# EAGLE library part ATSAMD21G (library Atmel)
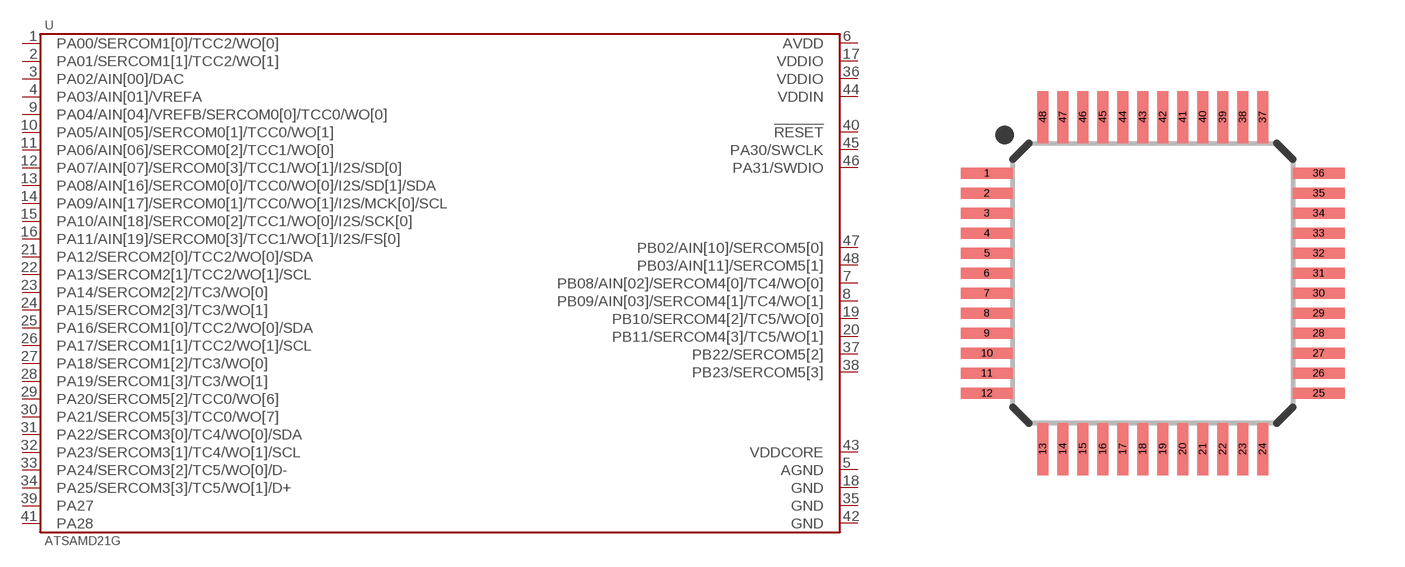
[diagram p19: symbol with the pads of TQFP-48-7MM; footprint TQFP-48-7MM]

Designator prefix U

## ATSAMD21G-AU  [TQFP-48-7MM]
1  PA00/SERCOM1[0]/TCC2/WO[0]
2  PA01/SERCOM1[1]/TCC2/WO[1]
3  PA02/AIN[00]/DAC
4  PA03/AIN[01]/VREFA
5  AGND
6  AVDD
7  PB08/AIN[02]/SERCOM4[0]/TC4/WO[0]
8  PB09/AIN[03]/SERCOM4[1]/TC4/WO[1]
9  PA04/AIN[04]/VREFB/SERCOM0[0]/TCC0/WO[0]
10  PA05/AIN[05]/SERCOM0[1]/TCC0/WO[1]
11  PA06/AIN[06]/SERCOM0[2]/TCC1/WO[0]
12  PA07/AIN[07]/SERCOM0[3]/TCC1/WO[1]/I2S/SD[0]
13  PA08/AIN[16]/SERCOM0[0]/TCC0/WO[0]/I2S/SD[1]/SDA
14  PA09/AIN[17]/SERCOM0[1]/TCC0/WO[1]/I2S/MCK[0]/SCL
15  PA10/AIN[18]/SERCOM0[2]/TCC1/WO[0]/I2S/SCK[0]
16  PA11/AIN[19]/SERCOM0[3]/TCC1/WO[1]/I2S/FS[0]
17  VDDIO
18  GND
19  PB10/SERCOM4[2]/TC5/WO[0]
20  PB11/SERCOM4[3]/TC5/WO[1]
21  PA12/SERCOM2[0]/TCC2/WO[0]/SDA
22  PA13/SERCOM2[1]/TCC2/WO[1]/SCL
23  PA14/SERCOM2[2]/TC3/WO[0]
24  PA15/SERCOM2[3]/TC3/WO[1]
25  PA16/SERCOM1[0]/TCC2/WO[0]/SDA
26  PA17/SERCOM1[1]/TCC2/WO[1]/SCL
27  PA18/SERCOM1[2]/TC3/WO[0]
28  PA19/SERCOM1[3]/TC3/WO[1]
29  PA20/SERCOM5[2]/TCC0/WO[6]
30  PA21/SERCOM5[3]/TCC0/WO[7]
31  PA22/SERCOM3[0]/TC4/WO[0]/SDA
32  PA23/SERCOM3[1]/TC4/WO[1]/SCL
33  PA24/SERCOM3[2]/TC5/WO[0]/D-
34  PA25/SERCOM3[3]/TC5/WO[1]/D+
35  GND
36  VDDIO
37  PB22/SERCOM5[2]
38  PB23/SERCOM5[3]
39  PA27
40  !RESET
41  PA28
42  GND
43  VDDCORE
44  VDDIN
45  PA30/SWCLK
46  PA31/SWDIO
47  PB02/AIN[10]/SERCOM5[0]
48  PB03/AIN[11]/SERCOM5[1]

## Footprint TQFP-48-7MM (pad centres in mm)
smd 1.3 x 0.275: 1 -4.15,2.75; 2 -4.15,2.25; 3 -4.15,1.75; 4 -4.15,1.25; 5 -4.15,0.75; 6 -4.15,0.25; 7 -4.15,-0.25; 8 -4.15,-0.75; 9 -4.15,-1.25; 10 -4.15,-1.75; 11 -4.15,-2.25; 12 -4.15,-2.75; 25 4.15,-2.75; 26 4.15,-2.25; 27 4.15,-1.75; 28 4.15,-1.25; 29 4.15,-0.75; 30 4.15,-0.25; 31 4.15,0.25; 32 4.15,0.75; 33 4.15,1.25; 34 4.15,1.75; 35 4.15,2.25; 36 4.15,2.75
smd 0.275 x 1.3: 13 -2.75,-4.15; 14 -2.25,-4.15; 15 -1.75,-4.15; 16 -1.25,-4.15; 17 -0.75,-4.15; 18 -0.25,-4.15; 19 0.25,-4.15; 20 0.75,-4.15; 21 1.25,-4.15; 22 1.75,-4.15; 23 2.25,-4.15; 24 2.75,-4.15; 37 2.75,4.15; 38 2.25,4.15; 39 1.75,4.15; 40 1.25,4.15; 41 0.75,4.15; 42 0.25,4.15; 43 -0.25,4.15; 44 -0.75,4.15; 45 -1.25,4.15; 46 -1.75,4.15; 47 -2.25,4.15; 48 -2.75,4.15